# Altium footprint library STM32_Nucleo_Nano.PcbLib: 1 footprints
Each footprint in its own frame and in the unit in brackets; x right, y up, seen from the top. Pads: shape width x height; smd on the part's side, far side on the other; paste and mask are expansions set on the pad; w line width, h text height; cw(c..) or ccw(c..) is an arc to the next point about the centre after c.
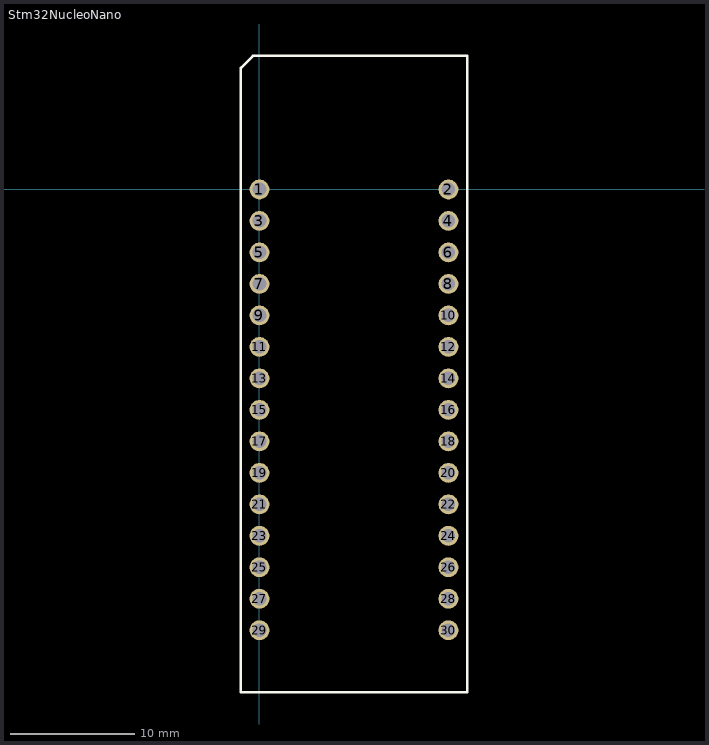
[diagram p0: the footprint, top view; thin cyan lines are the x and y axes]

## Stm32NucleoNano [mm]
pads (30):
  round 1.6 hole 1.1: 1(0,0) 2(15.24,0) 3(0,-2.54) 4(15.24,-2.54) 5(0,-5.08) 6(15.24,-5.08) 7(0,-7.62) 8(15.24,-7.62) 9(0,-10.16) 10(15.24,-10.16) 11(0,-12.7) 12(15.24,-12.7) 13(0,-15.24) 14(15.24,-15.24) 15(0,-17.78) 16(15.24,-17.78) 17(0,-20.32) 18(15.24,-20.32) 19(0,-22.86) 20(15.24,-22.86) 21(0,-25.4) 22(15.24,-25.4) 23(0,-27.94) 24(15.24,-27.94) 25(0,-30.48) 26(15.24,-30.48) 27(0,-33.02) 28(15.24,-33.02) 29(0,-35.56) 30(15.24,-35.56)
Top Overlay:
  lines w0.2: -1.5,-40.55 16.75,-40.55 16.75,10.775 -0.525,10.775 -1.5,9.8 -1.5,-40.55
3D body "IC_STMicroelectronics_NUCLEO-F303K8_eec.STEP": height 6.84, standoff -4.98, extent -1.671,-40.646 16.871,11.015